# Altium schematic symbol library TLP627ME.SchLib: 1 symbol
Pins are listed as number, name and electrical type; pins without a type are passive.

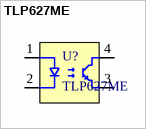
[diagram p0: symbol TLP627ME]

## TLP627ME
designator U?
pins: 1 A, 2 K, 3 E, 4 C